# Altium schematic symbol library D_HMI.SchLib: 1 symbol
Pins are listed as number, name and electrical type; pins without a type are passive.

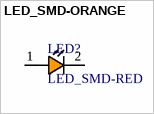
[diagram p0: symbol LED_SMD-ORANGE]

## LED_SMD-ORANGE
designator LED?, comment LED_SMD-RED
MANUFACTURER: *; MANUFACTURER CODE: *; PROVIDER: *; PROVIDER CODE: *; ComponentLink1Description: PROVIDER LINK; ComponentLink1URL: *; ComponentLink2Description: DATASHEET; ComponentLink2URL: *
footprint SMD_1206-ORANGE
pins: 1 ANODE, 2 CATHODE